# Altium schematic symbol library 3362P-1-205LF.SchLib: 1 symbol
Pins are listed as number, name and electrical type; pins without a type are passive.

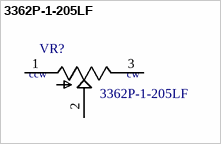
[diagram p0: symbol 3362P-1-205LF]

## 3362P-1-205LF
designator VR?
TRIMMER 2M OHM 0.5W PC PIN; MF: Bourns; Package: None; Price: 0.56 USD; Availability: Warning; MP: 3362P-1-205LF; Value: *
footprint TRIM_3362P-1-205LF
footprint TRIM_3362P-1-205LF-SMD
pins: 1 CCW, 2 WIPER, 3 CW
text: ccw; cw